# Altium footprint library NikoboticsPcb.PcbLib: 14 footprints
Each footprint in its own frame and in the unit in brackets; x right, y up, seen from the top. Pads: shape width x height; smd on the part's side, far side on the other; paste and mask are expansions set on the pad; w line width, h text height; cw(c..) or ccw(c..) is an arc to the next point about the centre after c.
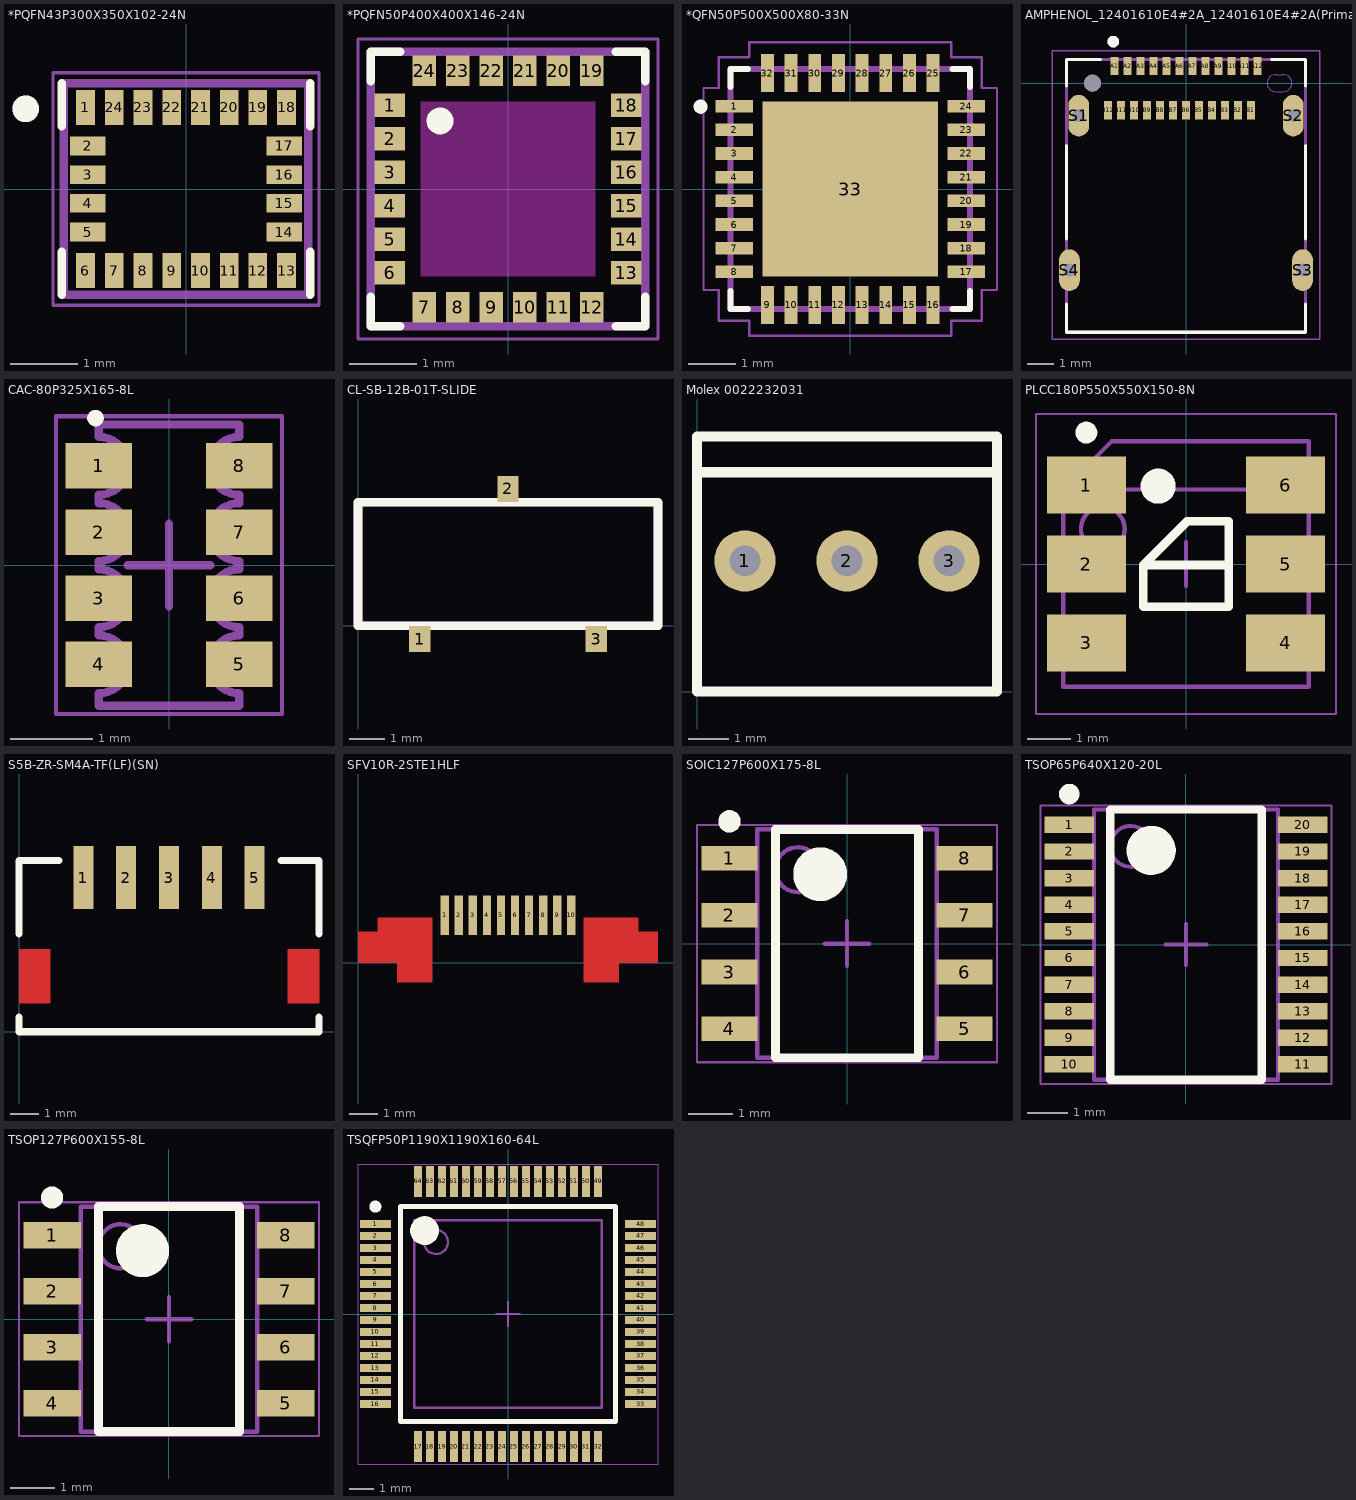
[diagram p0: the footprints below, top view; thin cyan lines are the x and y axes]

## *PQFN43P300X350X102-24N [mm]
pads (24):
  rect 0.28x0.53 smd: 1(-1.505,1.22) 6(-1.505,-1.22) 7(-1.075,-1.22) 8(-0.645,-1.22) 9(-0.215,-1.22) 10(0.215,-1.22) 11(0.645,-1.22) 12(1.075,-1.22) 13(1.505,-1.22) 18(1.505,1.22) 19(1.075,1.22) 20(0.645,1.22) 21(0.215,1.22) 22(-0.215,1.22) 23(-0.645,1.22) 24(-1.075,1.22)
  rect 0.53x0.28 smd: 2(-1.47,0.645) 3(-1.47,0.215) 4(-1.47,-0.215) 5(-1.47,-0.645) 14(1.47,-0.645) 15(1.47,-0.215) 16(1.47,0.215) 17(1.47,0.645)
Top Overlay:
  circle w0.2: c-2.4,1.2 r0.1
  lines w0.127: -1.86,-1.58 -1.86,-0.94 ; -1.86,0.94 -1.86,1.58 ; 1.86,-1.58 1.86,-0.94 ; 1.86,0.94 1.86,1.58
Mechanical 4:
  circle w0.2: c-2.4,1.2 r0.1
  circle w0.2: c-2.4,1.2 r0.1
  lines w0.127: -1.83,-1.58 -1.83,1.58 ; -1.83,-1.58 1.83,-1.58 ; -1.83,-1.58 -1.83,1.58 ; -1.83,-1.58 1.83,-1.58 ; -1.83,1.58 1.83,1.58 ; -1.83,1.58 1.83,1.58 ; 1.83,-1.58 1.83,1.58 ; 1.83,-1.58 1.83,1.58
Mechanical 16:
  lines w0.05: -1.99,-1.74 -1.99,1.74 1.99,1.74 1.99,-1.74 -1.99,-1.74

## *PQFN50P400X400X146-24N [mm]
pads (24):
  rect 0.45x0.35 smd: 1(-1.765,1.25) 2(-1.765,0.75) 3(-1.765,0.25) 4(-1.765,-0.25) 5(-1.765,-0.75) 6(-1.765,-1.25) 13(1.765,-1.25) 14(1.765,-0.75) 15(1.765,-0.25) 16(1.765,0.25) 17(1.765,0.75) 18(1.765,1.25)
  rect 0.35x0.45 smd: 7(-1.25,-1.765) 8(-0.75,-1.765) 9(-0.25,-1.765) 10(0.25,-1.765) 11(0.75,-1.765) 12(1.25,-1.765) 19(1.25,1.765) 20(0.75,1.765) 21(0.25,1.765) 22(-0.25,1.765) 23(-0.75,1.765) 24(-1.25,1.765)
Top Overlay:
  circle w0.2: c-1.016,1.016 r0.1
  lines w0.127: -2.05,-1.61 -2.05,-2.05 -1.61,-2.05 ; -2.05,1.61 -2.05,2.05 -1.61,2.05 ; 1.61,-2.05 2.05,-2.05 2.05,-1.61 ; 1.61,2.05 2.05,2.05 2.05,1.61
Keep-Out Layer:
  region: -1.3,1.3 1.3,1.3 1.3,-1.3 -1.3,-1.3
  region: -1.3,1.3 1.3,1.3 1.3,-1.3 -1.3,-1.3
  region: -1.3,1.3 1.3,1.3 1.3,-1.3 -1.3,-1.3
  region: -1.3,1.3 1.3,1.3 1.3,-1.3 -1.3,-1.3
  region: -1.3,1.3 1.3,1.3 1.3,-1.3 -1.3,-1.3
  region: -1.3,1.3 1.3,1.3 1.3,-1.3 -1.3,-1.3
Mechanical 4:
  lines w0.127: -2.05,-2.05 -2.05,2.05 ; -2.05,-2.05 2.05,-2.05 ; -2.05,-2.05 -2.05,2.05 ; -2.05,-2.05 2.05,-2.05 ; -2.05,2.05 2.05,2.05 ; -2.05,2.05 2.05,2.05 ; 2.05,-2.05 2.05,2.05 ; 2.05,-2.05 2.05,2.05
Mechanical 16:
  lines w0.05: -2.24,-2.24 -2.24,2.24 2.24,2.24 2.24,-2.24 -2.24,-2.24

## *QFN50P500X500X80-33N [mm]
pads (33):
  rect 0.8x0.27 smd: 1(-2.45,1.75) 2(-2.45,1.25) 3(-2.45,0.75) 4(-2.45,0.25) 5(-2.45,-0.25) 6(-2.45,-0.75) 7(-2.45,-1.25) 8(-2.45,-1.75) 17(2.45,-1.75) 18(2.45,-1.25) 19(2.45,-0.75) 20(2.45,-0.25) 21(2.45,0.25) 22(2.45,0.75) 23(2.45,1.25) 24(2.45,1.75)
  rect 0.27x0.8 smd: 9(-1.75,-2.45) 10(-1.25,-2.45) 11(-0.75,-2.45) 12(-0.25,-2.45) 13(0.25,-2.45) 14(0.75,-2.45) 15(1.25,-2.45) 16(1.75,-2.45) 25(1.75,2.45) 26(1.25,2.45) 27(0.75,2.45) 28(0.25,2.45) 29(-0.25,2.45) 30(-0.75,2.45) 31(-1.25,2.45) 32(-1.75,2.45)
  rect 3.7x3.7 smd: 33(0,0)
Top Overlay:
  circle w0.15: c-3.163,1.739 r0.075
  lines w0.127: -2.53,-2.156 -2.53,-2.53 -2.156,-2.53 ; -2.53,2.156 -2.53,2.53 -2.156,2.53 ; 2.156,-2.53 2.53,-2.53 2.53,-2.156 ; 2.156,2.53 2.53,2.53 2.53,2.156
Top Paste:
  region: -1.172,1.17 1.17,1.17 1.17,-1.172 -1.172,-1.172
Mechanical 4:
  lines w0.127: -2.53,-2.53 -2.53,2.53 ; -2.53,-2.53 2.53,-2.53 ; -2.53,-2.53 -2.53,2.53 ; -2.53,-2.53 2.53,-2.53 ; -2.53,2.53 2.53,2.53 ; -2.53,2.53 2.53,2.53 ; 2.53,-2.53 2.53,2.53 ; 2.53,-2.53 2.53,2.53
Mechanical 16:
  lines w0.05: -3.1,-2.135 -2.78,-2.135 -2.78,-2.78 -2.135,-2.78 -2.135,-3.1 2.135,-3.1 2.135,-2.78 2.78,-2.78 2.78,-2.135 3.1,-2.135 3.1,2.135 2.78,2.135 2.78,2.78 2.135,2.78 2.135,3.1 -2.135,3.1 -2.135,2.78 -2.78,2.78 -2.78,2.135 -3.1,2.135 -3.1,-2.135

## AMPHENOL_12401610E4#2A_12401610E4#2A(Primary) [mm]
pads (29):
  rect 0.3x0.7 smd: A1(-2.75,0.66) A2(-2.25,0.66) A3(-1.75,0.66) A4(-1.25,0.66) A5(-0.75,0.66) A6(-0.25,0.66) A7(0.25,0.66) A8(0.75,0.66) A9(1.25,0.66) A10(1.75,0.66) A11(2.25,0.66) A12(2.75,0.66) B1(2.5,-1.04) B2(2,-1.04) B3(1.5,-1.04) B4(1,-1.04) B5(0.5,-1.04) B6(0,-1.04) B7(-0.5,-1.04) B8(-1,-1.04) B9(-1.5,-1.04) B10(-2,-1.04) B11(-2.5,-1.04) B12(-3,-1.04)
  round 0.65 hole 0.65 unplated: None(-3.6,0)
  oval 0.8x1.6 hole 0.5: S1(-4.13,-1.25) S2(4.13,-1.25) S3(4.49,-7.2) S4(-4.49,-7.2)
Top Overlay:
  circle w0.25: c-2.8,1.6 r0.1
  lines w0.127: -4.6,-8.5 -4.6,-9.59 4.6,-9.59 4.6,-8.5 ; -4.6,-6 -4.6,-2.4 ; -4.6,-0.1 -4.6,0.91 -3.3,0.91 ; 3.3,0.91 4.6,0.91 4.6,-0.1 ; 4.6,-6 4.6,-2.4
Mechanical 1:
  lines w0: -4.74,-7.5 ccw(c-4.49,-7.5) -4.49,-7.75 ccw(c-4.49,-7.5) -4.24,-7.5 -4.24,-6.9 ccw(c-4.49,-6.9) -4.49,-6.65 ccw(c-4.49,-6.9) -4.74,-6.9 -4.74,-7.5 ; -4.38,-1.55 ccw(c-4.13,-1.55) -4.13,-1.8 ccw(c-4.13,-1.55) -3.88,-1.55 -3.88,-0.95 ccw(c-4.13,-0.95) -4.13,-0.7 ccw(c-4.13,-0.95) -4.38,-0.95 -4.38,-1.55 ; 3.45,-0.325 cw(c3.45,0) 3.45,0.325 3.75,0.325 cw(c3.75,0) 3.75,-0.325 3.45,-0.325 ; 3.88,-1.55 ccw(c4.13,-1.55) 4.13,-1.8 ccw(c4.13,-1.55) 4.38,-1.55 4.38,-0.95 ccw(c4.13,-0.95) 4.13,-0.7 ccw(c4.13,-0.95) 3.88,-0.95 3.88,-1.55 ; 4.24,-7.5 ccw(c4.49,-7.5) 4.49,-7.75 ccw(c4.49,-7.5) 4.74,-7.5 4.74,-6.9 ccw(c4.49,-6.9) 4.49,-6.65 ccw(c4.49,-6.9) 4.24,-6.9 4.24,-7.5
Mechanical 4:
  circle w0.25: c-2.8,1.6 r0.1
  circle w0.25: c-2.8,1.6 r0.1
  lines w0.127: -4.6,-9.59 -4.6,0.91 ; -4.6,-9.59 4.6,-9.59 ; -4.6,-9.59 -4.6,0.91 ; -4.6,-9.59 4.6,-9.59 ; -4.6,0.91 4.6,0.91 ; -4.6,0.91 4.6,0.91 ; 4.6,-9.59 4.6,0.91 ; 4.6,-9.59 4.6,0.91
Mechanical 16:
  lines w0.05: -5.15,-9.85 5.15,-9.85 5.15,1.25 -5.15,1.25 -5.15,-9.85

## CAC-80P325X165-8L [mm] "Chip Array, Concave, 8-Leads, Pitch 0.80mm,  Body 3.25x1.65mm,  IPC High Density"
height 0.6
pads (8):
  rect 0.8x0.55 smd: 1(-0.85,1.2) 2(-0.85,0.4) 3(-0.85,-0.4) 4(-0.85,-1.2) 5(0.85,-1.2) 6(0.85,-0.4) 7(0.85,0.4) 8(0.85,1.2)
Top Overlay:
  circle w0.1: c-0.889,1.778 r0.05
Mechanical 13:
  lines w0.1: -0.85,-1.7 0.85,-1.7 0.85,-1.55 cw(c0.85,-1.2) 0.85,-0.85 0.85,-0.75 cw(c0.85,-0.4) 0.85,-0.05 0.85,0.05 cw(c0.85,0.4) 0.85,0.75 0.85,0.85 cw(c0.85,1.2) 0.85,1.55 0.85,1.7 -0.85,1.7 -0.85,1.55 cw(c-0.85,1.2) -0.85,0.85 -0.85,0.75 cw(c-0.85,0.4) -0.85,0.05 -0.85,-0.05 cw(c-0.85,-0.4) -0.85,-0.75 -0.85,-0.85 cw(c-0.85,-1.2) -0.85,-1.55 -0.85,-1.7
Mechanical 15:
  lines w0.05: -1.365,-1.8 1.365,-1.8 1.365,1.8 -1.365,1.8 -1.365,-1.8
  lines w0.1: -0.5,0 0.5,0 ; 0,-0.5 0,0.5
3D body: height 0.6, standoff 0, extent -0.9,-1.7 0.9,1.7

## CL-SB-12B-01T-SLIDE [mm]
pads (3):
  rect 0.6x0.75 smd: 1(1.75,-0.375) 2(4.25,3.875) 3(6.75,-0.375)
Top Overlay:
  lines w0.254: 0,0 8.5,0 8.5,3.5 0,3.5 0,0
Mechanical 1:
  lines w0.254: 0,0 8.5,0 8.5,3.5 0,3.5 0,0

## Molex 0022232031 [mil]
pads (3):
  round 60 hole 30: 1(47,128) 2(147,128) 3(247,128)
Top Overlay:
  lines w10: 0,215 294,215 ; 0,0 0,250 294,250 294,0 0,0

## PLCC180P550X550X150-8N [mm] "Leaded Chip Carrier, 8-Leads, Body 5.50x5.50mm, Pitch 1.800mm, IPC Medium Density"
height 1.5
pads (6):
  rect 1.8x1.3 smd: 1(-2.275,1.8) 2(-2.275,0) 3(-2.275,-1.8) 4(2.275,-1.8) 5(2.275,0) 6(2.275,1.8)
Top Overlay:
  circle w0.4: c-0.635,1.778 r0.2
  circle w0.25: c-2.275,3 r0.125
  lines w0.2: 0.975,-0.025 -0.975,-0.025 ; -0.975,-0.025 -0.975,-0.975 0.975,-0.975 0.975,0.975 0.025,0.975 -0.975,-0.025
Mechanical 13:
  circle w0.1: c-1.9,0.8 r0.5
  lines w0.1: 2.8,1.7 -2.8,1.7 ; -2.8,1.7 -1.7,2.8 2.8,2.8 2.8,-2.8 -2.8,-2.8 -2.8,1.7
Mechanical 15:
  lines w0.05: -3.425,-3.425 3.425,-3.425 3.425,3.425 -3.425,3.425 -3.425,-3.425
  lines w0.1: -0.5,0 0.5,0 ; 0,-0.5 0,0.5
3D body: height 1.5, standoff 0.35, extent -2.8,-2.8 2.8,2.8

## S5B-ZR-SM4A-TF(LF)(SN) [mm]
pads (5):
  rect 0.7x2.2 smd: 1(2.25,5.4) 2(3.75,5.4) 3(5.25,5.4) 4(6.75,5.4) 5(8.25,5.4)
Top Layer:
  region: 9.4,2.9 10.5,2.9 10.5,1 9.4,1
  region: 0,2.9 1.1,2.9 1.1,1 0,1
Top Overlay:
  lines w0.254: 0,0.508 0,0 10.5,0 ; 0,3.429 0,6 1.397,6 ; 9.175,6 10.5,6 10.5,3.429 ; 10.414,0 10.5,0 ; 10.5,0.508 10.5,0

## SFV10R-2STE1HLF [mm]
pads (10):
  rect 0.3x1.4 smd mask+0.07: 1(3.1,1.7) 2(3.6,1.7) 3(4.1,1.7) 4(4.6,1.7) 5(5.1,1.7) 6(5.6,1.7) 7(6.1,1.7) 8(6.6,1.7) 9(7.1,1.7) 10(7.6,1.7)
Top Layer:
  region: 1.4,0 0,0 0,1.1 0.7,1.1 0.7,1.6 2.65,1.6 2.65,-0.7 1.4,-0.7
  region: 9.3,0 10.7,0 10.7,1.1 10,1.1 10,1.6 8.05,1.6 8.05,-0.7 9.3,-0.7

## SOIC127P600X175-8L [mm] "SOIC, 8-Leads, Body 4.93x3.90mm, Pitch 1.27mm, IPC High Density"
height 1.75
pads (8):
  rect 1.25x0.55 smd: 1(-2.625,1.905) 2(-2.625,0.635) 3(-2.625,-0.635) 4(-2.625,-1.905) 5(2.625,-1.905) 6(2.625,-0.635) 7(2.625,0.635) 8(2.625,1.905)
Top Overlay:
  circle w0.6: c-0.6,1.55 r0.3
  circle w0.25: c-2.625,2.73 r0.125
  lines w0.2: -1.6,-2.55 1.6,-2.55 1.6,2.55 -1.6,2.55 -1.6,-2.55
Mechanical 13:
  circle w0.1: c-1.1,1.65 r0.5
  lines w0.1: -2,-2.55 2,-2.55 2,2.55 -2,2.55 -2,-2.55
Mechanical 15:
  lines w0.05: -3.35,-2.65 3.35,-2.65 3.35,2.65 -3.35,2.65 -3.35,-2.65
  lines w0.1: -0.5,0 0.5,0 ; 0,-0.5 0,0.5
3D body: height 1.75, standoff 0.25, extent -2,-2.55 2,2.55

## TSOP65P640X120-20L [mm] "TSOP, 20-Leads, Body 6.50x4.40mm, Pitch 0.65mm, IPC High Density"
height 1.2
pads (20):
  rect 1.2x0.4 smd: 1(-2.85,2.925) 2(-2.85,2.275) 3(-2.85,1.625) 4(-2.85,0.975) 5(-2.85,0.325) 6(-2.85,-0.325) 7(-2.85,-0.975) 8(-2.85,-1.625) 9(-2.85,-2.275) 10(-2.85,-2.925) 11(2.85,-2.925) 12(2.85,-2.275) 13(2.85,-1.625) 14(2.85,-0.975) 15(2.85,-0.325) 16(2.85,0.325) 17(2.85,0.975) 18(2.85,1.625) 19(2.85,2.275) 20(2.85,2.925)
Top Overlay:
  circle w0.25: c-2.85,3.675 r0.125
  circle w0.6: c-0.85,2.3 r0.3
  lines w0.2: -1.85,-3.3 -1.85,3.3 1.85,3.3 1.85,-3.3 -1.85,-3.3
Mechanical 13:
  circle w0.1: c-1.35,2.4 r0.5
  lines w0.1: -2.25,-3.3 -2.25,3.3 2.25,3.3 2.25,-3.3 -2.25,-3.3
Mechanical 15:
  lines w0.05: -3.55,-3.4 -3.55,3.4 3.55,3.4 3.55,-3.4 -3.55,-3.4
  lines w0.1: -0.5,0 0.5,0 ; 0,-0.5 0,0.5
3D body: height 1.2, standoff 0.15, extent -2.25,-3.3 2.25,3.3

## TSOP127P600X155-8L [mm] "TSOP, 8-Leads, Body 4.90x3.90mm, Pitch 1.27mm, IPC High Density"
height 1.55
pads (8):
  rect 1.3x0.6 smd: 1(-2.65,1.905) 2(-2.65,0.635) 3(-2.65,-0.635) 4(-2.65,-1.905) 5(2.65,-1.905) 6(2.65,-0.635) 7(2.65,0.635) 8(2.65,1.905)
Top Overlay:
  circle w0.25: c-2.65,2.755 r0.125
  circle w0.6: c-0.6,1.55 r0.3
  lines w0.2: -1.6,-2.55 -1.6,2.55 1.6,2.55 1.6,-2.55 -1.6,-2.55
Mechanical 13:
  circle w0.1: c-1.1,1.65 r0.5
  lines w0.1: -2,-2.55 -2,2.55 2,2.55 2,-2.55 -2,-2.55
Mechanical 15:
  lines w0.05: -3.4,-2.65 -3.4,2.65 3.4,2.65 3.4,-2.65 -3.4,-2.65
  lines w0.1: -0.5,0 0.5,0 ; 0,-0.5 0,0.5
3D body: height 1.55, standoff 0.25, extent -2,-2.55 2,2.55

## TSQFP50P1190X1190X160-64L [mm] "TSQFP, 64-Leads, Body 7.80x7.80mm, Pitch 0.50mm, IPC High Density"
height 1.6
pads (64):
  rect 1.3x0.35 smd: 1(-5.525,3.75) 2(-5.525,3.25) 3(-5.525,2.75) 4(-5.525,2.25) 5(-5.525,1.75) 6(-5.525,1.25) 7(-5.525,0.75) 8(-5.525,0.25) 9(-5.525,-0.25) 10(-5.525,-0.75) 11(-5.525,-1.25) 12(-5.525,-1.75) 13(-5.525,-2.25) 14(-5.525,-2.75) 15(-5.525,-3.25) 16(-5.525,-3.75) 33(5.525,-3.75) 34(5.525,-3.25) 35(5.525,-2.75) 36(5.525,-2.25) 37(5.525,-1.75) 38(5.525,-1.25) 39(5.525,-0.75) 40(5.525,-0.25) 41(5.525,0.25) 42(5.525,0.75) 43(5.525,1.25) 44(5.525,1.75) 45(5.525,2.25) 46(5.525,2.75) 47(5.525,3.25) 48(5.525,3.75)
  rect 0.35x1.3 smd: 17(-3.75,-5.525) 18(-3.25,-5.525) 19(-2.75,-5.525) 20(-2.25,-5.525) 21(-1.75,-5.525) 22(-1.25,-5.525) 23(-0.75,-5.525) 24(-0.25,-5.525) 25(0.25,-5.525) 26(0.75,-5.525) 27(1.25,-5.525) 28(1.75,-5.525) 29(2.25,-5.525) 30(2.75,-5.525) 31(3.25,-5.525) 32(3.75,-5.525) 49(3.75,5.525) 50(3.25,5.525) 51(2.75,5.525) 52(2.25,5.525) 53(1.75,5.525) 54(1.25,5.525) 55(0.75,5.525) 56(0.25,5.525) 57(-0.25,5.525) 58(-0.75,5.525) 59(-1.25,5.525) 60(-1.75,5.525) 61(-2.25,5.525) 62(-2.75,5.525) 63(-3.25,5.525) 64(-3.75,5.525)
Top Overlay:
  circle w0.6: c-3.475,3.475 r0.3
  circle w0.25: c-5.525,4.475 r0.125
  lines w0.2: -4.475,-4.475 4.475,-4.475 4.475,4.475 -4.475,4.475 -4.475,-4.475
Mechanical 13:
  circle w0.1: c-3,3 r0.5
  lines w0.1: -3.9,-3.9 3.9,-3.9 3.9,3.9 -3.9,3.9 -3.9,-3.9
Mechanical 15:
  lines w0.05: -6.25,-6.25 6.25,-6.25 6.25,6.25 -6.25,6.25 -6.25,-6.25
  lines w0.1: -0.5,0 0.5,0 ; 0,-0.5 0,0.5
3D body: height 1.6, standoff 0.05, extent -3.9,-3.9 3.9,3.9